# EAGLE library part 2X5 (library Connectors > Header > Shrouded)
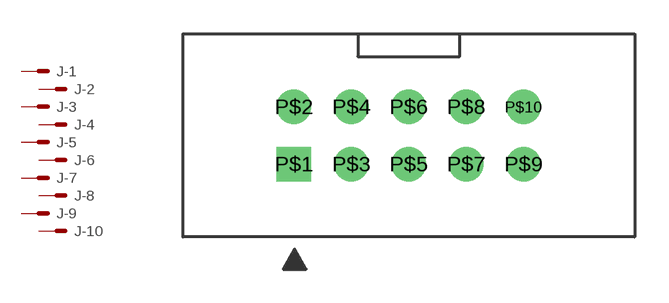
[diagram p0: symbol with the pads of 2X5_2.54_SHROUDED; footprint 2X5_2.54_SHROUDED]

Designator prefix J; gates -1=K -2=K -3=K -4=K -5=K -6=K -7=K -8=K -9=K -10=K

## 2X5  [2X5_2.54_SHROUDED]
P$1  -1:S  pas
P$2  -2:S  pas
P$3  -3:S  pas
P$4  -4:S  pas
P$5  -5:S  pas
P$6  -6:S  pas
P$7  -7:S  pas
P$8  -8:S  pas
P$9  -9:S  pas
P$10  -10:S  pas

## Footprint 2X5_2.54_SHROUDED (pad centres in mm)
drill 1.02 square: P$1 -5.08,-1.27
drill 1.02: P$2 -5.08,1.27; P$3 -2.54,-1.27; P$4 -2.54,1.27; P$5 0,-1.27; P$6 0,1.27; P$7 2.54,-1.27; P$8 2.54,1.27; P$9 5.08,-1.27; P$10 5.08,1.27